# Altium integrated library Lattice XP2 FPGA.IntLib: 170 symbols (part 2 of 2)
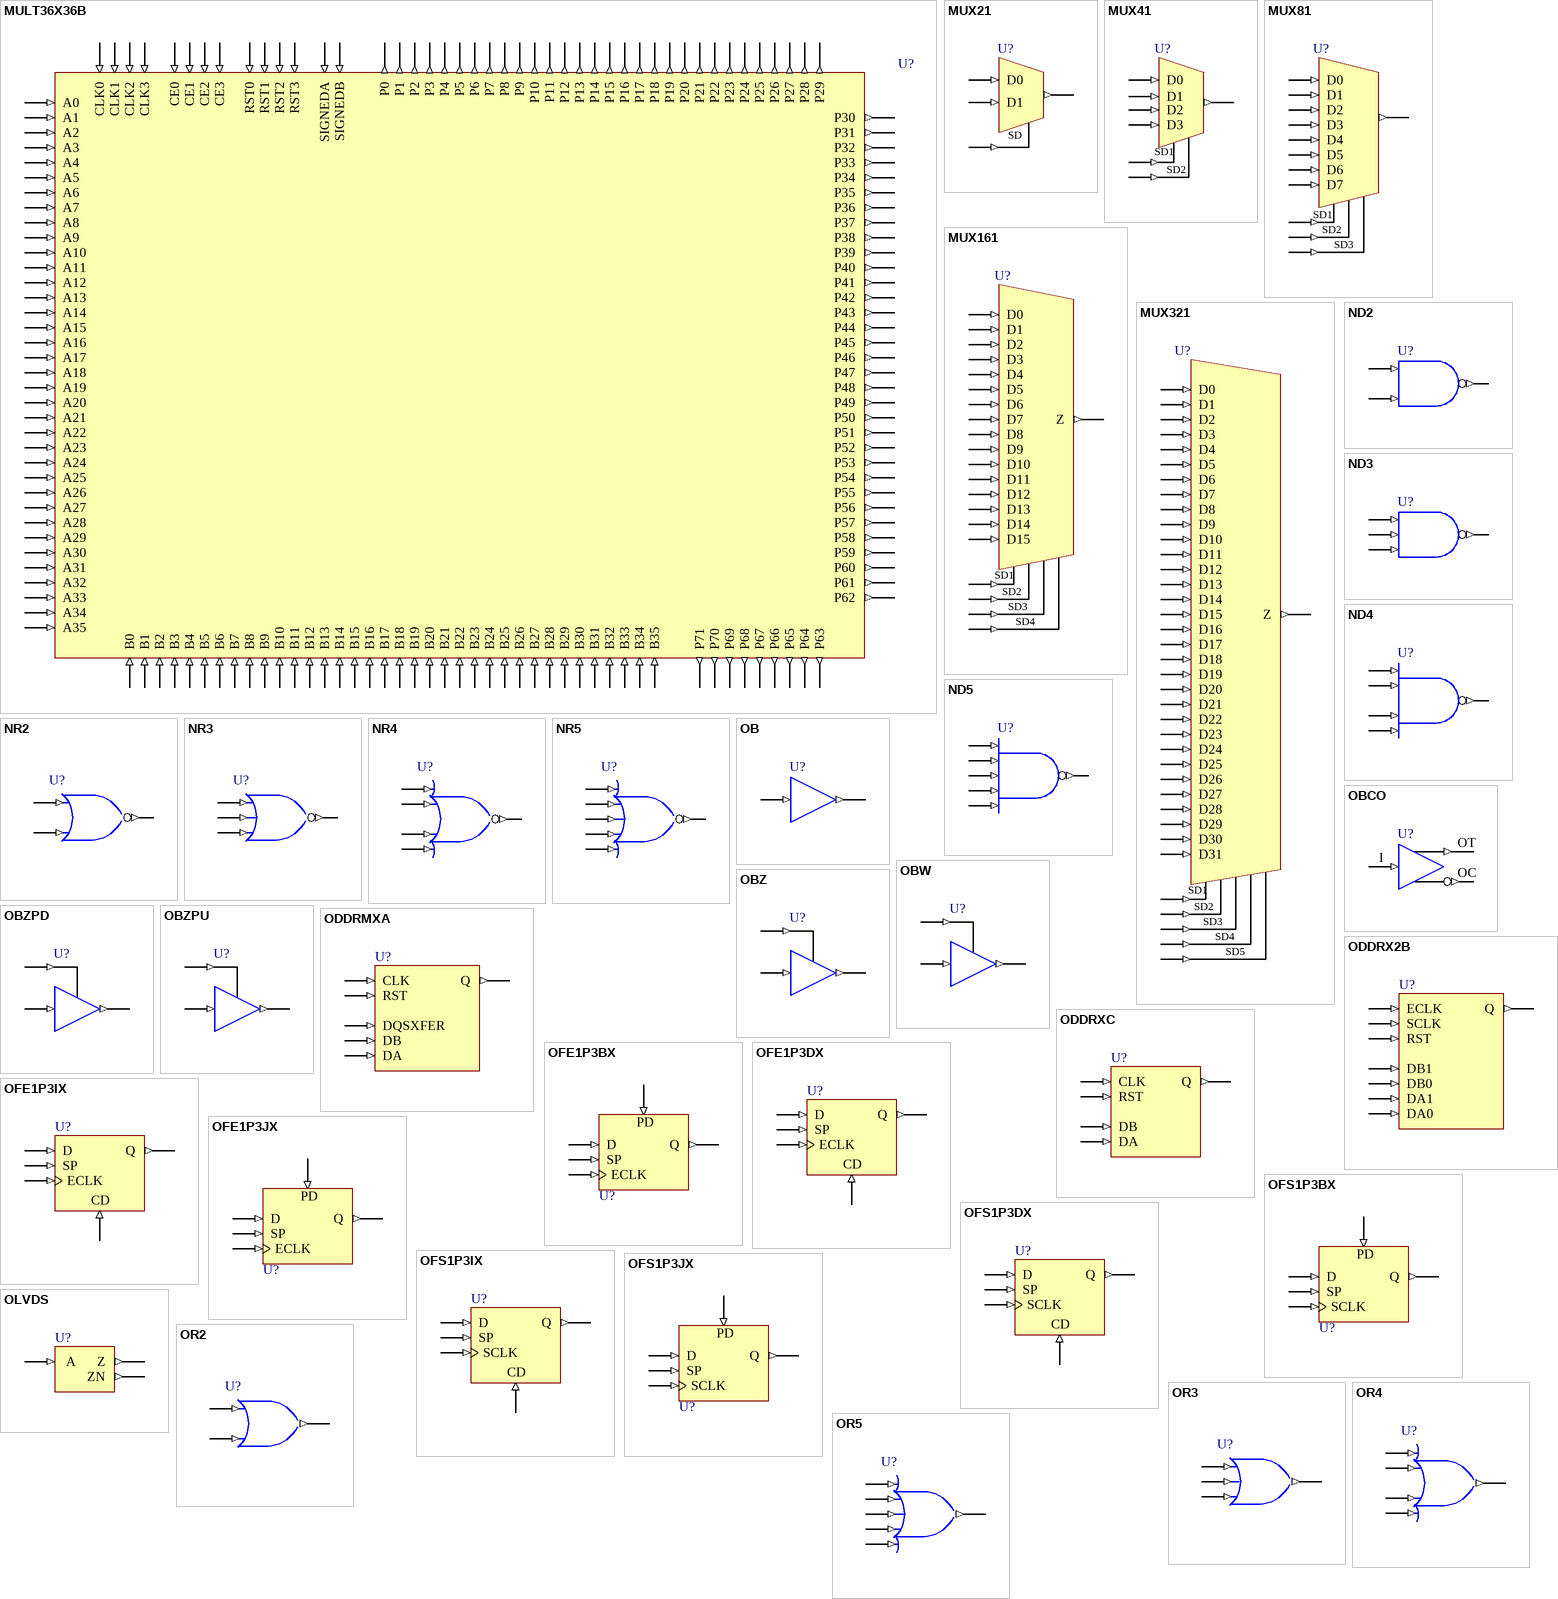
[diagram p11: symbols MULT36X36B to OR5]

## OFE1P3BX
designator U?
Positive Edge Triggered D Flip-Flop with Positive Level Enable, Positive Level Asynchronous Preset, and Express Clock (used in output PIC area only); FPGAVendor: Lattice; Published: 15-Jun-2005; Publisher: Altium Limited; HelpURL: http://www.latticesemi.com/lit/docs/manuals/library.pdf
pins: D (in), ECLK (in), PD (in), Q (out), SP (in)

## OFE1P3DX
designator U?
Positive Edge Triggered D Flip-Flop with Positive Level Enable, Positive Level Asynchronous Clear, and Express Clock (used in output PIC area only); FPGAVendor: Lattice; Published: 15-Jun-2005; Publisher: Altium Limited; HelpURL: http://www.latticesemi.com/lit/docs/manuals/library.pdf
pins: CD (in), D (in), ECLK (in), Q (out), SP (in)

## OFE1P3IX
designator U?
Positive Edge Triggered D Flip-Flop with Positive Level Synchronous Clear, Positive Level Enable (Clear overrides Enable), and Express Clock (used in output PIC area only); FPGAVendor: Lattice; Published: 15-Jun-2005; Publisher: Altium Limited; HelpURL: http://www.latticesemi.com/lit/docs/manuals/library.pdf
pins: CD (in), D (in), ECLK (in), Q (out), SP (in)

## OFE1P3JX
designator U?
Positive Edge Triggered D Flip-Flop with Positive Level Synchronous Preset, Positive Level Enable (Preset overrides Enable), and Express Clock (used in output PIC area only); FPGAVendor: Lattice; Published: 15-Jun-2005; Publisher: Altium Limited; HelpURL: http://www.latticesemi.com/lit/docs/manuals/library.pdf
pins: D (in), ECLK (in), PD (in), Q (out), SP (in)

## OFS1P3BX
designator U?
Positive Edge Triggered D Flip-Flop with Positive Level Enable, Positive Level Asynchronous Preset, and System Clock (used in output PIC area only); FPGAVendor: Lattice; Published: 15-Jun-2005; Publisher: Altium Limited; HelpURL: http://www.latticesemi.com/lit/docs/manuals/library.pdf
pins: D (in), PD (in), Q (out), SCLK (in), SP (in)

## OFS1P3DX
designator U?
Positive Edge Triggered D Flip-Flop with Positive Level Enable, Positive Level Asynchronous Clear, and System Clock (used in output PIC area only); FPGAVendor: Lattice; Published: 15-Jun-2005; Publisher: Altium Limited; HelpURL: http://www.latticesemi.com/lit/docs/manuals/library.pdf
pins: CD (in), D (in), Q (out), SCLK (in), SP (in)

## OFS1P3IX
designator U?
Positive Edge Triggered D Flip-Flop with Positive Level Synchronous Clear, Positive Level Enable (Clear overrides Enable), and System Clock (used in output PIC area only); FPGAVendor: Lattice; Published: 15-Jun-2005; Publisher: Altium Limited; HelpURL: http://www.latticesemi.com/lit/docs/manuals/library.pdf
pins: CD (in), D (in), Q (out), SCLK (in), SP (in)

## OFS1P3JX
designator U?
Positive Edge Triggered D Flip-Flop with Positive Level Synchronous Preset, Positive Level Enable (Preset overrides Enable), and System Clock (used in output PIC area only); FPGAVendor: Lattice; Published: 15-Jun-2005; Publisher: Altium Limited; HelpURL: http://www.latticesemi.com/lit/docs/manuals/library.pdf
pins: D (in), PD (in), Q (out), SCLK (in), SP (in)

## OLVDS
designator U?
OLVDS Output Pad; FPGAVendor: Lattice; Published: 11-Aug-2008; Publisher: Altium Limited; HelpURL: http://www.latticesemi.com/products/fpga/xp2/index.cfm
pins:  A (in), Z (out), ZN (out)

## OR2
designator U?
2 Input OR Gate; FPGAVendor: Lattice; Published: 15-Jun-2005; Publisher: Altium Limited; HelpURL: http://www.latticesemi.com/lit/docs/manuals/library.pdf
pins: A (in), B (in), Z (out)

## OR3
designator U?
3 Input OR Gate; FPGAVendor: Lattice; Published: 15-Jun-2005; Publisher: Altium Limited; HelpURL: http://www.latticesemi.com/lit/docs/manuals/library.pdf
pins: A (in), B (in), C (in), Z (out)

## OR4
designator U?
4 Input OR Gate; FPGAVendor: Lattice; Published: 15-Jun-2005; Publisher: Altium Limited; HelpURL: http://www.latticesemi.com/lit/docs/manuals/library.pdf
pins: A (in), B (in), C (in), D (in), Z (out)

## OR5
designator U?
5 Input OR Gate; FPGAVendor: Lattice; Published: 15-Jun-2005; Publisher: Altium Limited; HelpURL: http://www.latticesemi.com/lit/docs/manuals/library.pdf
pins: A (in), B (in), C (in), D (in), E (in), Z (out)

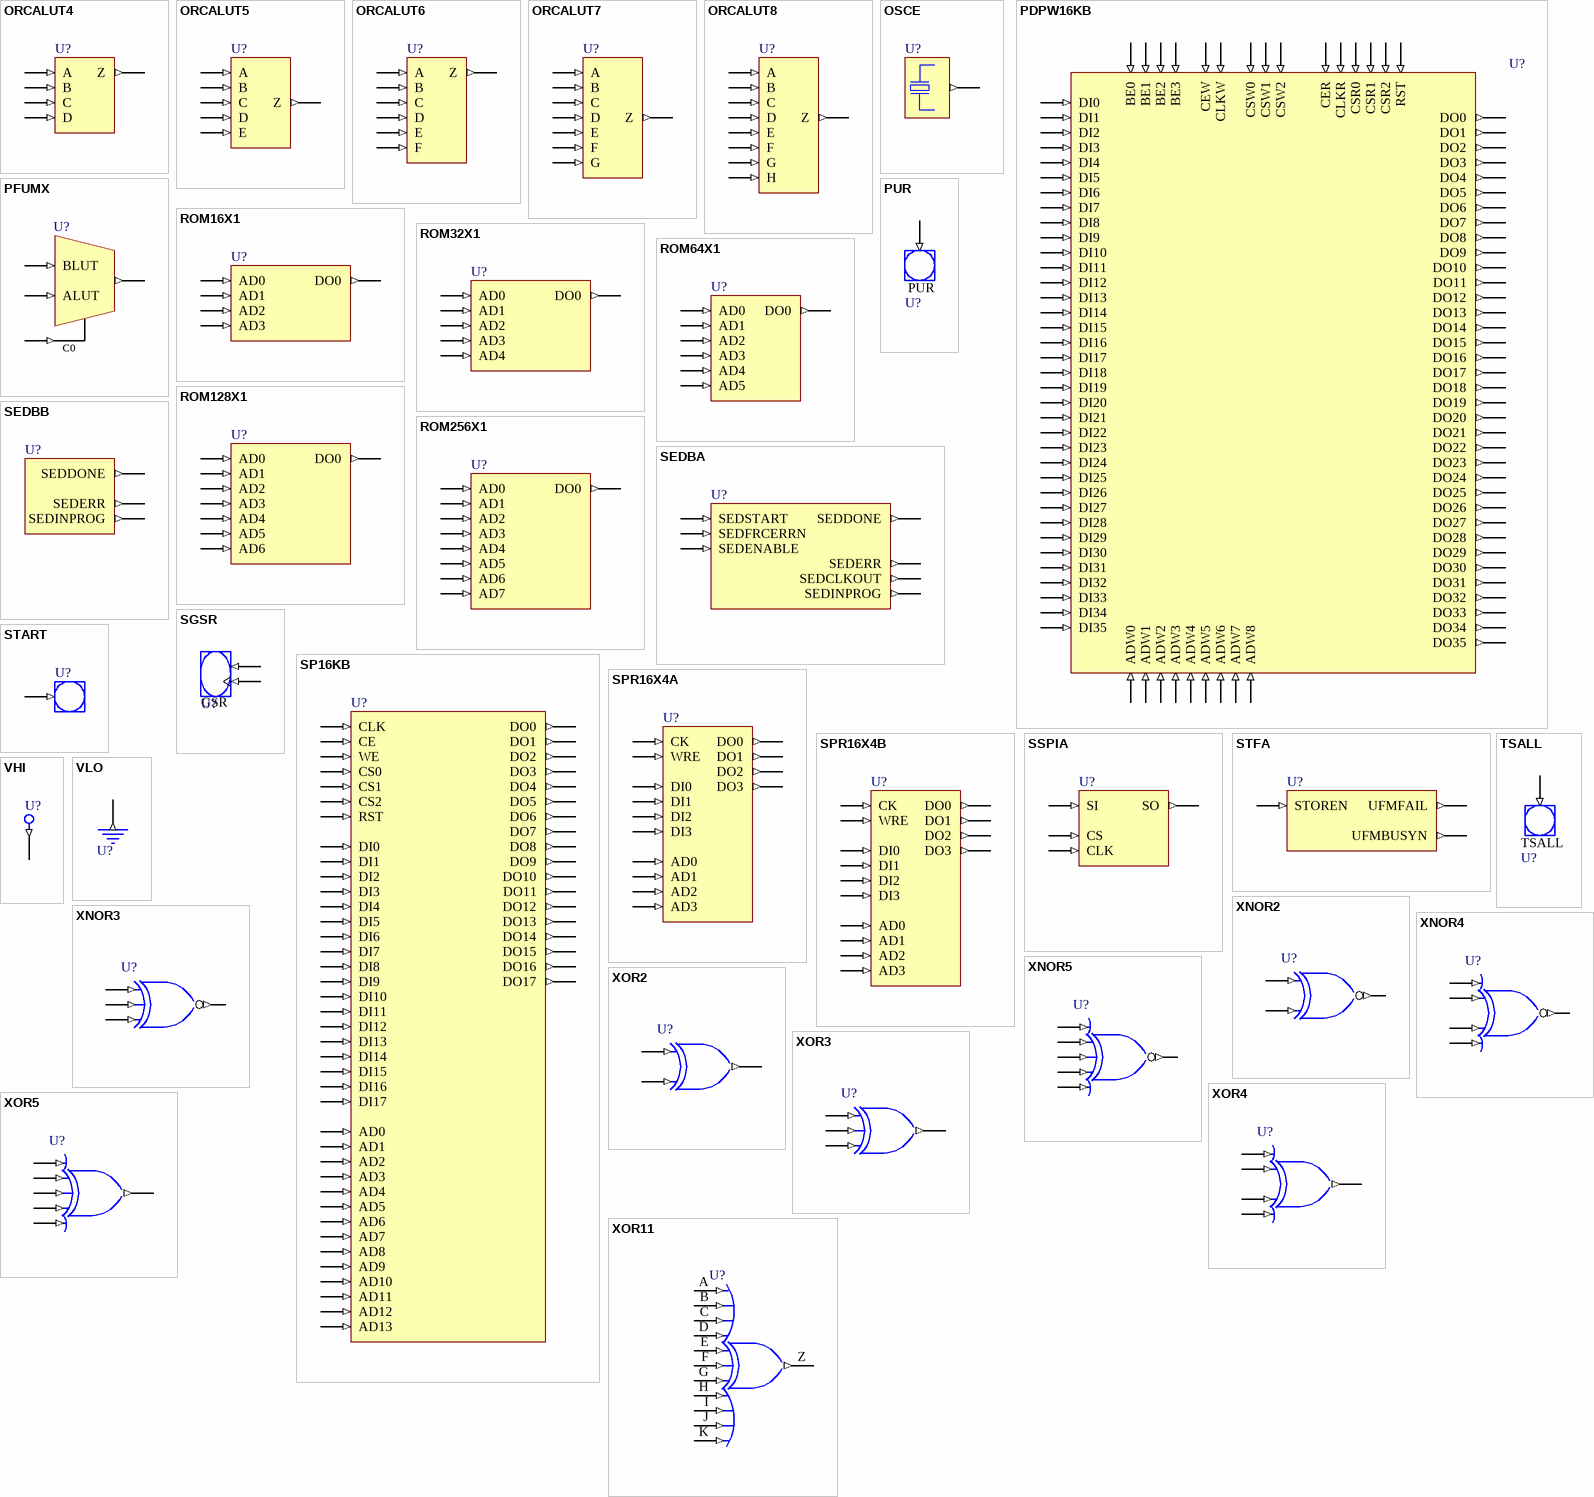
[diagram p9: symbols ORCALUT4 to XOR11]

## ORCALUT4
designator U?
4-Input Look-up Table; FPGAVendor: Lattice; Published: 15-Jun-2005; Publisher: Altium Limited; HelpURL: http://www.latticesemi.com/lit/docs/manuals/library.pdf
pins: A (in), B (in), C (in), D (in), Z (out)

## ORCALUT5
designator U?
5-Input Look-up Table; FPGAVendor: Lattice; Published: 15-Jun-2005; Publisher: Altium Limited; HelpURL: http://www.latticesemi.com/lit/docs/manuals/library.pdf
pins: A (in), B (in), C (in), D (in), E (in), Z (out)

## ORCALUT6
designator U?
6-Input Look-up Table; FPGAVendor: Lattice; Published: 15-Jun-2005; Publisher: Altium Limited; HelpURL: http://www.latticesemi.com/lit/docs/manuals/library.pdf
pins: A (in), B (in), C (in), D (in), E (in), F (in), Z (out)

## ORCALUT7
designator U?
7-Input Look-up Table; FPGAVendor: Lattice; Published: 15-Jun-2005; Publisher: Altium Limited; HelpURL: http://www.latticesemi.com/lit/docs/manuals/library.pdf
pins: A (in), B (in), C (in), D (in), E (in), F (in), G (in), Z (out)

## ORCALUT8
designator U?
8-Input Look-up Table; FPGAVendor: Lattice; Published: 15-Jun-2005; Publisher: Altium Limited; HelpURL: http://www.latticesemi.com/lit/docs/manuals/library.pdf
pins: A (in), B (in), C (in), D (in), E (in), F (in), G (in), H (in), Z (out)

## OSCE
designator U?
Clock Function; FPGAVendor: Lattice; Published: 11-Aug-2008; Publisher: Altium Limited; HelpURL: http://www.latticesemi.com/products/fpga/xp2/index.cfm
pins: OSC (out)

## PDPW16KB
designator U?
Dual Port Memory Block; FPGAVendor: Lattice; Published: 11-Aug-2008; Publisher: Altium Limited; HelpURL: http://www.latticesemi.com/products/fpga/xp2/index.cfm
pins: ADW0 (in), ADW1 (in), ADW2 (in), ADW3 (in), ADW4 (in), ADW5 (in), ADW6 (in), ADW7 (in), ADW8 (in), BE0 (in), BE1 (in), BE2 (in), BE3 (in), CER (in), CEW (in), CLKR (in), CLKW (in), CSR0 (in), CSR1 (in), CSR2 (in), CSW0 (in), CSW1 (in), CSW2 (in), DI0 (in), DI1 (in), DI2 (in), DI3 (in), DI4 (in), DI5 (in), DI6 (in), DI7 (in), DI8 (in), DI9 (in), DI10 (in), DI11 (in), DI12 (in), DI13 (in), DI14 (in), DI15 (in), DI16 (in), DI17 (in), DI18 (in), DI19 (in), DI20 (in), DI21 (in), DI22 (in), DI23 (in), DI24 (in), DI25 (in), DI26 (in), DI27 (in), DI28 (in), DI29 (in), DI30 (in), DI31 (in), DI32 (in), DI33 (in), DI34 (in), DI35 (in), DO0 (out), DO1 (out), DO2 (out), DO3 (out), DO4 (out), DO5 (out), DO6 (out), DO7 (out), DO8 (out), DO9 (out), DO10 (out), DO11 (out), DO12 (out), DO13 (out), DO14 (out), DO15 (out), DO16 (out), DO17 (out), DO18 (out), DO19 (out), DO20 (out), DO21 (out), DO22 (out), DO23 (out), DO24 (out), DO25 (out), DO26 (out), DO27 (out), DO28 (out), DO29 (out), DO30 (out), DO31 (out), DO32 (out), DO33 (out), DO34 (out), DO35 (out), RST (in)

## PFUMX
designator U?
PFU Mux; FPGAVendor: Lattice; Published: 15-Jun-2005; Publisher: Altium Limited; HelpURL: http://www.latticesemi.com/lit/docs/manuals/library.pdf
pins: ALUT (in), BLUT (in), C0 (in), Z (out)

## PUR
designator U?
Power Up Set/Reset; FPGAVendor: Lattice; Published: 15-Jun-2005; Publisher: Altium Limited; HelpURL: http://www.latticesemi.com/lit/docs/manuals/library.pdf
pins: PUR (in)

## ROM16X1
designator U?
16 Word by 1 Bit Read-Only Memory; FPGAVendor: Lattice; Published: 15-Jun-2005; Publisher: Altium Limited; HelpURL: http://www.latticesemi.com/lit/docs/manuals/library.pdf
pins: AD0 (in), AD1 (in), AD2 (in), AD3 (in), DO0 (out)

## ROM32X1
designator U?
32 Word by 1 Bit Read-Only Memory; FPGAVendor: Lattice; Published: 15-Jun-2005; Publisher: Altium Limited; HelpURL: http://www.latticesemi.com/lit/docs/manuals/library.pdf
pins: AD0 (in), AD1 (in), AD2 (in), AD3 (in), AD4 (in), DO0 (out)

## ROM64X1
designator U?
64 Word by 1 Bit Read-Only Memory; FPGAVendor: Lattice; Published: 15-Jun-2005; Publisher: Altium Limited; HelpURL: http://www.latticesemi.com/lit/docs/manuals/library.pdf
pins: AD0 (in), AD1 (in), AD2 (in), AD3 (in), AD4 (in), AD5 (in), DO0 (out)

## ROM128X1
designator U?
128 Word by 1 Bit Read-Only Memory; FPGAVendor: Lattice; Published: 15-Jun-2005; Publisher: Altium Limited; HelpURL: http://www.latticesemi.com/lit/docs/manuals/library.pdf
pins: AD0 (in), AD1 (in), AD2 (in), AD3 (in), AD4 (in), AD5 (in), AD6 (in), DO0 (out)

## ROM256X1
designator U?
256 Word by 1 Bit Read-Only Memory; FPGAVendor: Lattice; Published: 15-Jun-2005; Publisher: Altium Limited; HelpURL: http://www.latticesemi.com/lit/docs/manuals/library.pdf
pins: AD0 (in), AD1 (in), AD2 (in), AD3 (in), AD4 (in), AD5 (in), AD6 (in), AD7 (in), DO0 (out)

## SEDBA
designator U?
Serial Function; FPGAVendor: Lattice; Published: 11-Aug-2008; Publisher: Altium Limited; HelpURL: http://www.latticesemi.com/products/fpga/xp2/index.cfm
pins: SEDCLKOUT (out), SEDDONE (out), SEDENABLE (in), SEDERR (out), SEDFRCERRN (in), SEDINPROG (out), SEDSTART (in)

## SEDBB
designator U?
Serial Function; FPGAVendor: Lattice; Published: 11-Aug-2008; Publisher: Altium Limited; HelpURL: http://www.latticesemi.com/products/fpga/xp2/index.cfm
pins: SEDDONE (out), SEDERR (out), SEDINPROG (out)

## SGSR
designator U?
Global Set/Reset; FPGAVendor: Lattice; Published: 11-Aug-2008; Publisher: Altium Limited; HelpURL: http://www.latticesemi.com/products/fpga/xp2/index.cfm
pins: CLK (in), GSR (in)

## SP16KB
designator U?
16KB Memory Block; FPGAVendor: Lattice; Published: 11-Aug-2008; Publisher: Altium Limited; HelpURL: http://www.latticesemi.com/products/fpga/xp2/index.cfm
pins: AD0 (in), AD1 (in), AD2 (in), AD3 (in), AD4 (in), AD5 (in), AD6 (in), AD7 (in), AD8 (in), AD9 (in), AD10 (in), AD11 (in), AD12 (in), AD13 (in), CE (in), CLK (in), CS0 (in), CS1 (in), CS2 (in), DI0 (in), DI1 (in), DI2 (in), DI3 (in), DI4 (in), DI5 (in), DI6 (in), DI7 (in), DI8 (in), DI9 (in), DI10 (in), DI11 (in), DI12 (in), DI13 (in), DI14 (in), DI15 (in), DI16 (in), DI17 (in), DO0 (out), DO1 (out), DO2 (out), DO3 (out), DO4 (out), DO5 (out), DO6 (out), DO7 (out), DO8 (out), DO9 (out), DO10 (out), DO11 (out), DO12 (out), DO13 (out), DO14 (out), DO15 (out), DO16 (out), DO17 (out), RST (in), WE (in)

## SPR16X4A
designator U?
16x4 Memory Block; FPGAVendor: Lattice; Published: 11-Aug-2008; Publisher: Altium Limited; HelpURL: http://www.latticesemi.com/products/fpga/xp2/index.cfm
pins: AD0 (in), AD1 (in), AD2 (in), AD3 (in), CK (in), DI0 (in), DI1 (in), DI2 (in), DI3 (in), DO0 (out), DO1 (out), DO2 (out), DO3 (out), WRE (in)

## SPR16X4B
designator U?
16x4 Memory Block; FPGAVendor: Lattice; Published: 11-Aug-2008; Publisher: Altium Limited; HelpURL: http://www.latticesemi.com/products/fpga/xp2/index.cfm
pins: AD0 (in), AD1 (in), AD2 (in), AD3 (in), CK (in), DI0 (in), DI1 (in), DI2 (in), DI3 (in), DO0 (out), DO1 (out), DO2 (out), DO3 (out), WRE (in)

## SSPIA
designator U?
Serial Function; FPGAVendor: Lattice; TAG_INITSIZE: 2184; TAG_INITIALIZATION: DISABLED; SLAVE_SPI_PORT: ENABLE; TAG_INITVAL_00: 0x00000000000000000000000000000000000000000000000000000000000000000000000000000000; Published: 11-Aug-2008; Publisher: Altium Limited; HelpURL: http://www.latticesemi.com/products/fpga/xp2/index.cfm; TAG_INITVAL_01: 0x00000000000000000000000000000000000000000000000000000000000000000000000000000000; TAG_INITVAL_02: 0x00000000000000000000000000000000000000000000000000000000000000000000000000000000; TAG_INITVAL_03: 0x00000000000000000000000000000000000000000000000000000000000000000000000000000000; TAG_INITVAL_04: 0x00000000000000000000000000000000000000000000000000000000000000000000000000000000; TAG_INITVAL_05: 0x00000000000000000000000000000000000000000000000000000000000000000000000000000000; TAG_INITVAL_06: 0x00000000000000000000000000000000000000000000000000000000000000000000000000000000; TAG_INITVAL_07: 0x00000000000000000000000000000000000000000000000000000000000000000000000000000000; TAG_INITVAL_08: 0x00000000000000000000000000000000000000000000000000000000000000000000000000000000; TAG_INITVAL_09: 0x00000000000000000000000000000000000000000000000000000000000000000000000000000000; TAG_INITVAL_0A: 0x00000000000000000000000000000000000000000000000000000000000000000000000000000000; TAG_INITVAL_0B: 0x00000000000000000000000000000000000000000000000000000000000000000000000000000000; TAG_INITVAL_0C: 0x00000000000000000000000000000000000000000000000000000000000000000000000000000000
pins: CLK (in), CS (in), SI (in), SO (out)

## START
designator U?
Start-up; FPGAVendor: Lattice; Published: 11-Aug-2008; Publisher: Altium Limited; HelpURL: http://www.latticesemi.com/products/fpga/xp2/index.cfm
pins: STARTCLK (in)

## STFA
designator U?
Memory Function; FPGAVendor: Lattice; Published: 11-Aug-2008; Publisher: Altium Limited; HelpURL: http://www.latticesemi.com/products/fpga/xp2/index.cfm
pins: STOREN (in), UFMBUSYN (out), UFMFAIL (out)

## TSALL
designator U?
Global Tristate Interface; FPGAVendor: Lattice; Published: 15-Jun-2005; Publisher: Altium Limited; HelpURL: http://www.latticesemi.com/lit/docs/manuals/library.pdf
pins: TSALL (in)

## VHI
designator U?
Logic High Generator; FPGAVendor: Lattice; Published: 15-Jun-2005; Publisher: Altium Limited; HelpURL: http://www.latticesemi.com/lit/docs/manuals/library.pdf
pins: Z (out)

## VLO
designator U?
Logic Low Generator; FPGAVendor: Lattice; Published: 15-Jun-2005; Publisher: Altium Limited; HelpURL: http://www.latticesemi.com/lit/docs/manuals/library.pdf
pins: Z (out)

## XNOR2
designator U?
2 Input Exclusive NOR Gate; FPGAVendor: Lattice; Published: 15-Jun-2005; Publisher: Altium Limited; HelpURL: http://www.latticesemi.com/lit/docs/manuals/library.pdf
pins: A (in), B (in), Z (out)

## XNOR3
designator U?
3 Input Exclusive NOR Gate; FPGAVendor: Lattice; Published: 15-Jun-2005; Publisher: Altium Limited; HelpURL: http://www.latticesemi.com/lit/docs/manuals/library.pdf
pins: A (in), B (in), C (in), Z (out)

## XNOR4
designator U?
4 Input Exclusive NOR Gate; FPGAVendor: Lattice; Published: 15-Jun-2005; Publisher: Altium Limited; HelpURL: http://www.latticesemi.com/lit/docs/manuals/library.pdf
pins: A (in), B (in), C (in), D (in), Z (out)

## XNOR5
designator U?
5 Input Exclusive NOR Gate; FPGAVendor: Lattice; Published: 15-Jun-2005; Publisher: Altium Limited; HelpURL: http://www.latticesemi.com/lit/docs/manuals/library.pdf
pins: A (in), B (in), C (in), D (in), E (in), Z (out)

## XOR2
designator U?
2 Input Exclusive OR Gate; FPGAVendor: Lattice; Published: 15-Jun-2005; Publisher: Altium Limited; HelpURL: http://www.latticesemi.com/lit/docs/manuals/library.pdf
pins: A (in), B (in), Z (out)

## XOR3
designator U?
3 Input Exclusive OR Gate; FPGAVendor: Lattice; Published: 15-Jun-2005; Publisher: Altium Limited; HelpURL: http://www.latticesemi.com/lit/docs/manuals/library.pdf
pins: A (in), B (in), C (in), Z (out)

## XOR4
designator U?
4 Input Exclusive OR Gate; FPGAVendor: Lattice; Published: 15-Jun-2005; Publisher: Altium Limited; HelpURL: http://www.latticesemi.com/lit/docs/manuals/library.pdf
pins: A (in), B (in), C (in), D (in), Z (out)

## XOR5
designator U?
5 Input Exclusive OR Gate; FPGAVendor: Lattice; Published: 15-Jun-2005; Publisher: Altium Limited; HelpURL: http://www.latticesemi.com/lit/docs/manuals/library.pdf
pins: A (in), B (in), C (in), D (in), E (in), Z (out)

## XOR11
designator U?
11 Input Exclusive OR Gate; FPGAVendor: Lattice; Published: 11-Aug-2008; Publisher: Altium Limited; HelpURL: http://www.latticesemi.com/products/fpga/xp2/index.cfm
pins: A (in), B (in), C (in), D (in), E (in), F (in), G (in), H (in), I (in), J (in), K (in), Z (out)

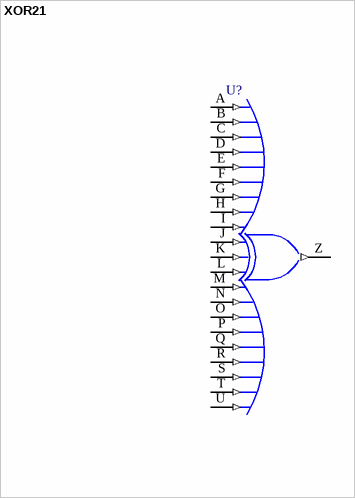
[diagram p10: symbol XOR21]

## XOR21
designator U?
21 Input Exclusive OR Gate; FPGAVendor: Lattice; Published: 11-Aug-2008; Publisher: Altium Limited; HelpURL: http://www.latticesemi.com/products/fpga/xp2/index.cfm
pins: A (in), B (in), C (in), D (in), E (in), F (in), G (in), H (in), I (in), J (in), K (in), L (in), M (in), N (in), O (in), P (in), Q (in), R (in), S (in), T (in), U (in), Z (out)